# Altium schematic symbol library PJ30072S6_R1_00301.SchLib: 1 symbol
Pins are listed as number, name and electrical type; pins without a type are passive.

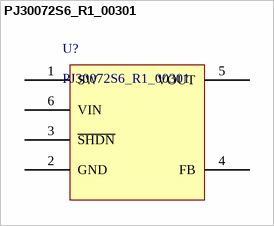
[diagram p0: symbol PJ30072S6_R1_00301]

## PJ30072S6_R1_00301
designator U?
IC REG BOOST ADJ SOT23-6; Supplier 1: Mouser; Supplier Part Number 1: 241-PJ30072S6R100301
footprint SOT95P280X15-6N (SOT23, 6-Leads, Body 2.93x2.80mm, Pitch 0.95mm, IPC Medium Density)
pins: 1 SW, 2 GND, 3 ~{SHDN}, 4 FB, 5 VOUT, 6 VIN